# EAGLE library part LT1028 (library Gemelke_Lab)
Precision OpAmp
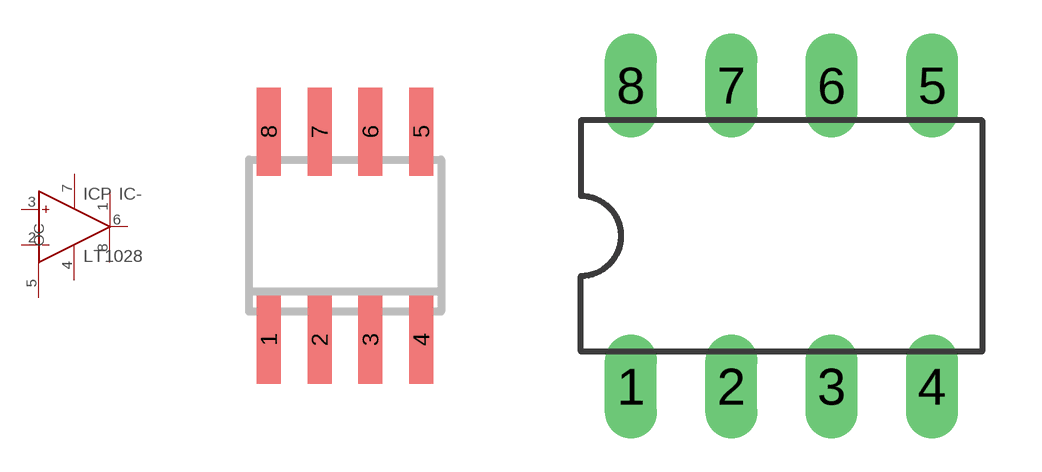
[diagram p2: symbol with the pads of SO8; footprints SO8, DIL08]

Designator prefix IC; gates -=OPAMP P=PWR+- T=TRIM OC=OVERCOMP

## LT1028SOIC8  [SO8]
1  T:TRIM1  pwr
2  -:IN-  in
3  -:IN+  in
4  P:V-  pwr
5  OC:OC  pas
6  -:OUT  out
7  P:V+  pwr
8  T:TRIM2  pwr

## LT1028DIP8  [DIL08]
Pads as for SO8

## Footprint SO8 (pad centres in mm)
8-Lead Small Outline IC (SO-8) Source: http://www.analog.com/UploadedFiles/Data_Sheets/703465986AD8611_2_0.pdf
smd 0.6 x 2.2: 1 -1.905,-2.6; 2 -0.635,-2.6; 3 0.635,-2.6; 4 1.905,-2.6; 5 1.905,2.6; 6 0.635,2.6; 7 -0.635,2.6; 8 -1.905,2.6

## Footprint DIL08 (pad centres in mm)
Dual In Line Package
drill 0.813 long: 1 -3.81,-3.81; 2 -1.27,-3.81; 3 1.27,-3.81; 4 3.81,-3.81; 5 3.81,3.81; 6 1.27,3.81; 7 -1.27,3.81; 8 -3.81,3.81